# Altium schematic symbol library APSS Prototype Parts.SchLib: 64 symbols
Pins are listed as number, name and electrical type; pins without a type are passive.

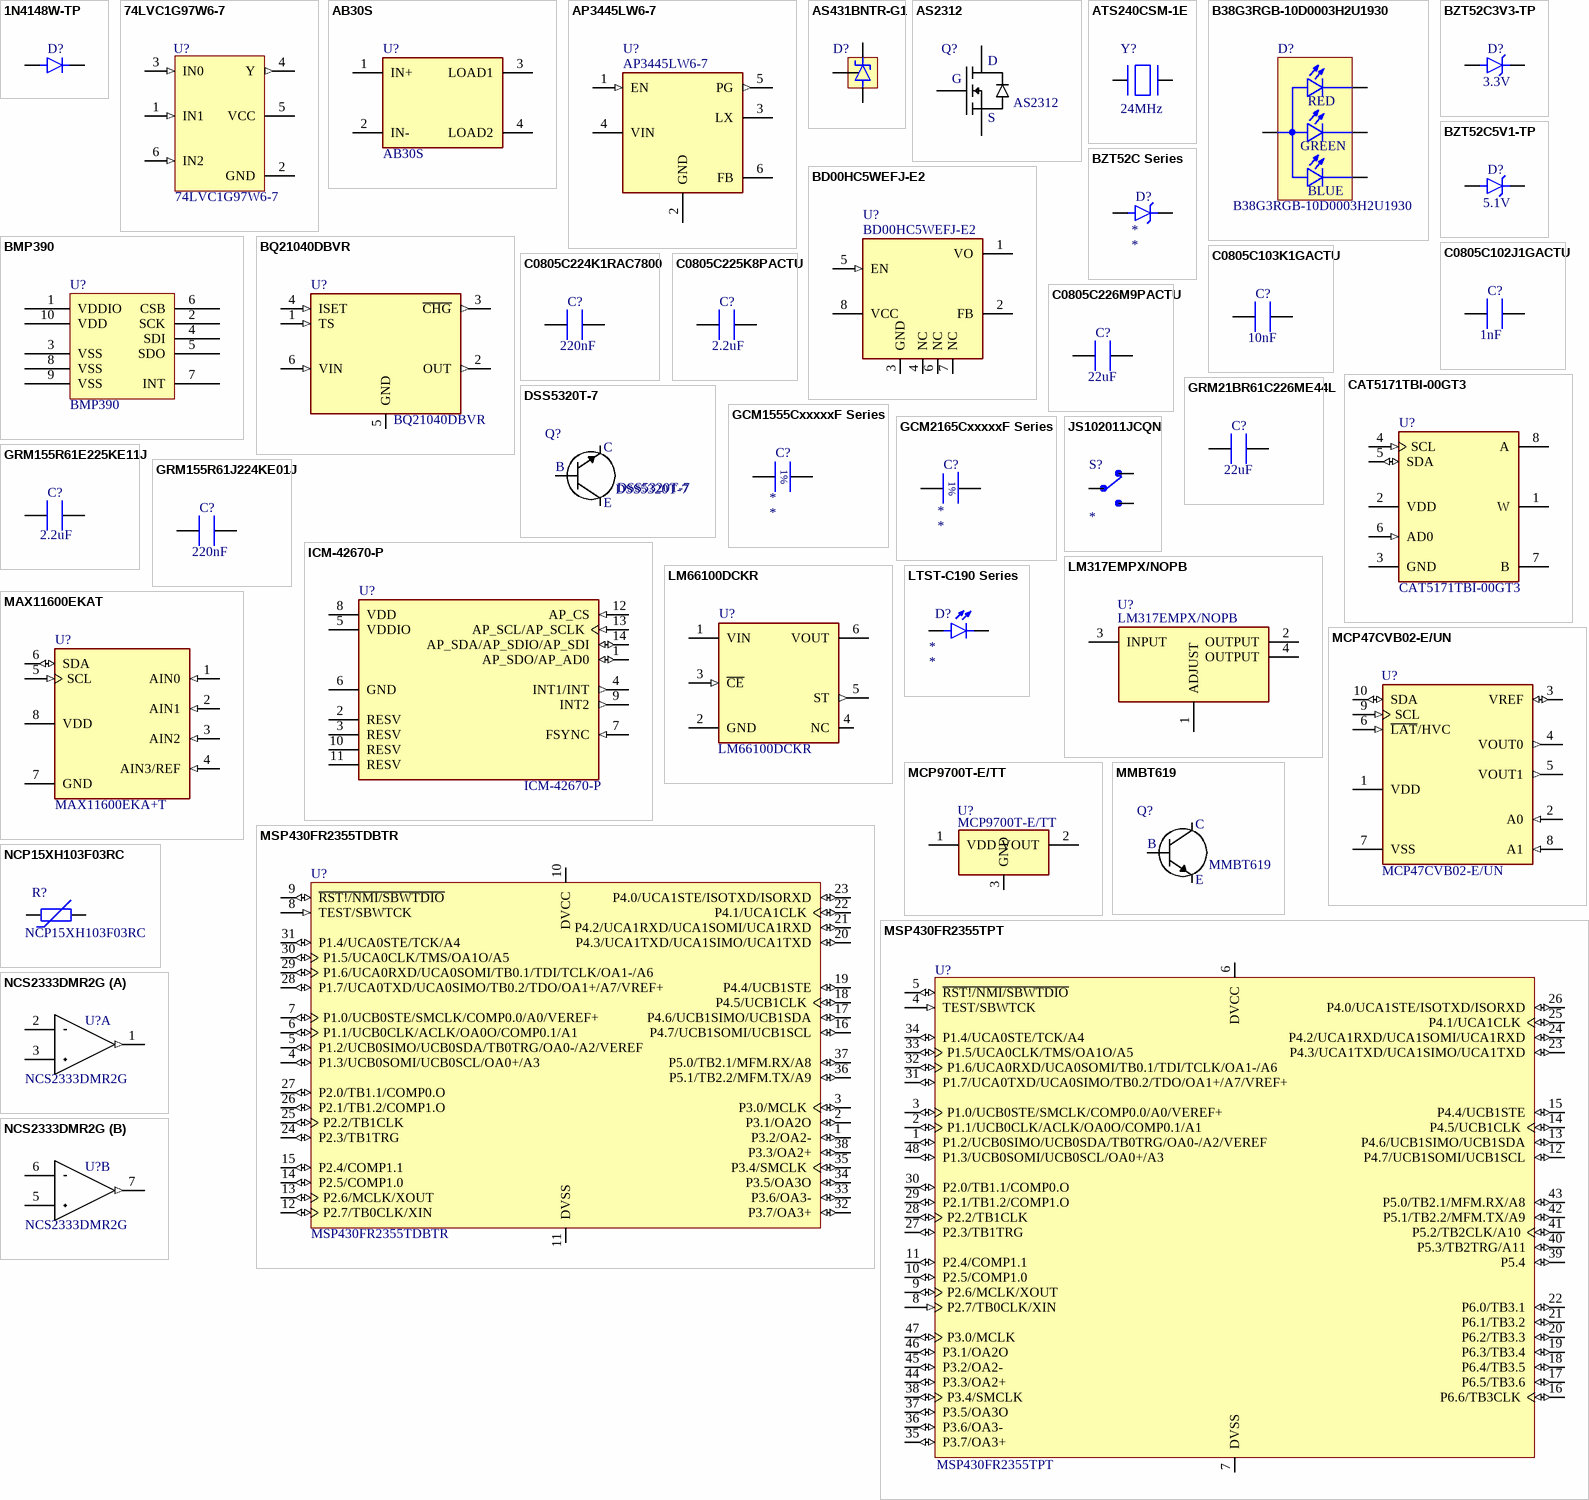
[diagram p0: symbols 1N4148W-TP to NCS2333DMR2G]

## 1N4148W-TP
designator D?  (value not drawn)
Diode - Low Reverse Leakage, 1.25 Vf @ 150 mA, 1 µA Reverse @ 75 V, SOD-123; APSS Standard Part: APSS Standard; Temp Range: -65°C ~ 150°C; Rated Voltage: 100V Reverse; MF Part No.: 1N4148W-TP; Package: SOD-123; Supplier 1: Digikey; Supplier 1 Part No.: 1N4148WTPMSCT-ND
footprint SOD123-1.35mm-N (SOD-123, 1.35mm high, nominal pads)
pins: A, C

## 74LVC1G97W6-7
designator U?
IC - Multifunction Logic Gate, 1 Circuit, 3 Input, 1.65 - 5.5V, AND, OR, NOT, MUX, SOT-23-6; APSS Standard Part: APSS Standard; Temp Range: -40°C ~ 125°C; Package: SOT-23-6; Rated Voltage: 5.5V; Supplier 1: Digikey; Supplier 1 Part No.: 74LVC1G97W6-7; MF Part No.: 74LVC1G97W6-7
footprint SOT23-6N-1.4mm (SOT23, 6 pins, nominal pads, 1.4mm high)
pins: 1 IN1 (in), 2 GND, 3 IN0 (in), 4 Y (out), 5 VCC (power), 6 IN2 (in)

## AB30S
designator U?
IC - Relay SSR, 100mA load, SPST-NO, 1500V Isolation, 400V Load; APSS Standard Part: APSS Standard; Temp Range: -40°C ~ 85°C; Package: SOP-4; Rated Voltage: 400V; Supplier 1: Digikey; Supplier 1 Part No.: 3008-AB30S-ND; MF Part No.: AB30S
footprint SOP-4_4.4mmBody_2mm (2.54mm pitch, 4.4mm wide, 2mm tall)
pins: 1 IN+, 2 IN-, 3 LOAD1, 4 LOAD2

## AP3445LW6-7
designator U?
IC - Regulator, Buck, 2A, 2.7V to 5.5V In, 0.6V to Vin Out, SOT23-6; APSS Standard Part: APSS Standard; Temp Range: -40°C ~ 85°C (TA); MF Part No.: AP3445LW6-7; Package: SOT-23-5; Supplier 1: Digikey; Supplier 1 Part No.: AP3445LW6-7DICT-ND; Rated Voltage: 5.5V
footprint SOT23-6N-1.4mm (SOT23, 6 pins, nominal pads, 1.4mm high)
pins: 1 EN (in), 2 GND (power), 3 LX, 4 VIN (power), 5 PG (out), 6 FB

## AS431BNTR-G1
designator D?  (value not drawn)
IC - Precision Voltage Reference, 2.5V - 36V, 100mA, 1%, 20ppm/°C; APSS Standard Part: APSS Standard; Temp Range: -40°C ~ 125°C; MF Part No.: AS431BNTR-G1; Package: SOT-23-3; Supplier 1: Digikey; Supplier 1 Part No.: AS431BNTR-G1DICT-ND; Rated Voltage: 36V; Temperature Coefficient: 20ppm/°C
footprint SOT23-3N-1.15mm (SOT23, 3-pin, 1.15mm high, nominal pads)
pins: 1 Ref, 2 A (power), 3 C (power)

## AS2312
designator Q?
Transistor - MOSFET, N-Channel AS2312; APSS Standard Part: APSS Standard; Temp Range: 0°C ~ 150°C (TJ); Rated Voltage: 20 Vds; Power: 1.2W; MF Part No.: AS2312; Package: SOT-23-3; Supplier 1: Digikey; Supplier 1 Part No.: 4530-AS2312CT-ND
footprint SOT23-3N-1.15mm (SOT23, 3-pin, 1.15mm high, nominal pads)
pins: 1 G, 2 S, 3 D

## ATS240CSM-1E
designator Y?, comment 24MHz
Crystal - 24MHz; MF Part No.: ATS240CSM-1E; APSS Standard Part: APSS Standard; Load Capacitance: 12pF; Freq Tolerance: ±30ppm; Freq Stability: ±50ppm; Temp range: -40°C ~ 85°C; Supplier 1: Digikey; Supplier 1 Part No.: CTX1128CT-ND; Value: 24MHz
footprint ATS240CSM-1E
pins: 1, 2

## B38G3RGB-10D0003H2U1930
designator D?
Diode - LED, RGB, 2V Red, 3V Green, 3V Blue 0606 (1616 Metric); APSS Standard Part: APSS Standard; Temp Range: -40°C ~ 85°C; MF Part No.: B38G3RGB-10D0003H2U1930; Package: 0606; Supplier 1: Digikey; Supplier 1 Part No.: 3147-B38G3RGB-10D0003H2U1930CT-ND
footprint LED_B38G3RGB-10D0003H2U1930_0606_1616M (RGB LED, 0606 (1616 metric), 0.4mm high)
pins: 1 G_C, 2 B_C, 3 A, 4 R_C
text: RED; GREEN; BLUE

## BD00HC5WEFJ-E2
designator U?
IC - Regulator, LDO, 1.5A, SOIC-8-EP; APSS Standard Part: APSS Standard; Temp Range: -25°C ~ 85°C; Rated Voltage: 8V; MF Part No.: BD00HC5WEFJ-E2; Package: SOIC-8-EP; Supplier 1: Digikey; Supplier 1 Part No.: BD00HC5WEFJ-E2CT-ND
footprint SOIC-8N-EP-3.9mmBody-1.75mm (8-SOIC, 8 pins and exposed pad, 3.9mm body width, nominal pads, 1.75mm high)
pins: 1 VO (power), 2 FB, 3 GND (power), 4 NC, 5 EN (in), 6 NC, 7 NC, 8 VCC (power)

## BMP390
designator U?
IC - Pressure Sensor, Digital; APSS Standard Part: APSS Standard; Temp Range: -40°C ~ 85°C; Pressure Range: 30 kPa ~ 125 kPa; Package: LGA; Pins: 10; Supplier 1: Digikey; Supplier 1 Part No.: 828-BMP390CT-ND; Supplier 2: *; Supplier 2 Part No.: *; MF Part No.: BMP390
footprint BMP390
pins: 1 VDDIO, 2 SCK, 3 VSS, 4 SDI, 5 SDO, 6 CSB, 7 INT, 8 VSS, 9 VSS, 10 VDD

## BQ21040DBVR
designator U?
IC - 1-cell, Li-ion / Li-po charger, 800mA; APSS Standard Part: APSS Standard; Rated Voltage: 6.45V; Temp Range: 0°C ~ 125°C (TJ); MF Part No.: BQ21040DBVR; Package: SOT-23-6; Supplier 1: Digikey; Supplier 1 Part No.: 296-47315-1-ND
footprint SOT23-6N-1.4mm (SOT23, 6 pins, nominal pads, 1.4mm high)
pins: 1 TS (in), 2 OUT (out), 3 ~{CHG} (out), 4 ISET (in), 5 GND (power), 6 VIN (in)

## BZT52C3V3-TP
designator D?  value 3.3V  (hidden comment: BZT52C3V3-TP)
Diode - Zener, 3V3, SOD-123; APSS Standard Part: APSS Standard; Temp Range: -65°C ~ 150°C; MF Part No.: BZT52C3V3-TP; Package: SOD-123; Supplier 1: Digikey; Supplier 1 Part No.: BZT52C3V3-TPMSCT-ND
footprint SOD123-1.35mm-N (SOD-123, 1.35mm high, nominal pads)
pins: A, C

## BZT52C5V1-TP
designator D?  value 5.1V  (hidden comment: BZT52C5V1-TP)
Diode - Zener, 5V1, SOD-123; APSS Standard Part: APSS Standard; Temp Range: -65°C ~ 150°C; MF Part No.: BZT52C5V1-TP; Package: SOD-123; Supplier 1: Digikey; Supplier 1 Part No.: BZT52C5V1-TPMSCT-ND
footprint SOD123-1.35mm-N (SOD-123, 1.35mm high, nominal pads)
pins: A, C

## BZT52C Series
designator D?
Diode - Zener Series, SOD-123; APSS Standard Part: APSS Standard; Temp Range: -65°C ~ 150°C; Package: SOD-123; Supplier 1: Digikey; MF Part No.: *; Value: *
footprint SOD123-1.35mm-N (SOD-123, 1.35mm high, nominal pads)
pins: A, C

## C0805C102J1GACTU
designator C?, comment 1nF
Passive - Capacitor, C0G, 1nF, 100V, 0805 (2012 Metric), ±5%, -55°C ~ 125°C.; MF Part No.: C0805C102J1GACTU; APSS Standard Part: APSS Standard; Capacitance at Rated Voltage: 100%; Tolerance: ±5%; Temperature Coefficient: C0G; Rated Voltage: 100V; Temp Range: -55°C ~ 125°C; Package: 0805; Supplier 1: Digikey; Supplier 1 Part No.: 399-C0805C102J1GAC7800CT-ND; Value: 1nF
footprint CAPACITOR_0805_2012M-70N (Capacitor, 0805 (2012 metric), 0.7mm high, nominal pads,)
pins: 1, 2

## C0805C103K1GACTU
designator C?, comment 10nF
Passive - Capacitor, C0G, 10nF, 100V, 0805 (2012 Metric), ±10%, -55°C ~ 125°C.; MF Part No.: C0805C103K1GACTU; APSS Standard Part: APSS Standard; Capacitance at Rated Voltage: 100%; Tolerance: ±10%; Temperature Coefficient: C0G; Rated Voltage: 100V; Temp Range: -55°C ~ 125°C; Package: 0805; Supplier 1: Digikey; Supplier 1 Part No.: 399-C0805C103K1GAC7800CT-ND; Value: 10nF
footprint CAPACITOR_0805_2012M-70N (Capacitor, 0805 (2012 metric), 0.7mm high, nominal pads,)
pins: 1, 2

## C0805C224K1RAC7800
designator C?, comment 220nF
Passive - Capacitor, X7R, 220nF Max, 100V, 0805 (2012 Metric), ±10%, -55°C ~ 85°C. 200nF @ 10V, 110nF @ 50V, 55nF @ 100V; MF Part No.: C0805C224K1RAC7800; APSS Standard Part: APSS Standard; Capacitance at Rated Voltage: 25%; Tolerance: ±10%; Temperature Coefficient: X7R; Rated Voltage: 100V; Temp Range: -55°C ~ 85°C; Package: 0805; Supplier 1: Digikey; Supplier 1 Part No.: 399-C0805C224K1RAC7800CT-ND; Value: 220nF
footprint CAPACITOR_0805_2012M-70N (Capacitor, 0805 (2012 metric), 0.7mm high, nominal pads,)
pins: 1, 2

## C0805C225K8PACTU
designator C?, comment 2.2uF
Passive - Capacitor, X5R, 2.2uF Max, 10V, 0805 (2012 Metric), ±10%, -55°C ~ 85°C. 2uF @ 5V, 1.1uF @ 10V; MF Part No.: C0805C225K8PACTU; APSS Standard Part: APSS Standard; Capacitance at Rated Voltage: 50%; Tolerance: ±10%; Temperature Coefficient: X5R; Rated Voltage: 10V; Temp Range: -55°C ~ 85°C; Package: 0805; Supplier 1: Digikey; Supplier 1 Part No.: 399-C0805C225K8PACTUCT-ND; Value: 2.2uF
footprint CAPACITOR_0805_2012M-70N (Capacitor, 0805 (2012 metric), 0.7mm high, nominal pads,)
pins: 1, 2

## C0805C226M9PACTU
designator C?, comment 22uF
Passive - Capacitor, X5R, 22uF Max, 6.3V, 0805 (2012 Metric), ±20%, -55°C ~ 85°C. 8.8uF @ 5V; MF Part No.: C0805C226M9PACTU; APSS Standard Part: APSS Standard; Capacitance at Rated Voltage: 30%; Tolerance: ±20%; Temperature Coefficient: X5R; Rated Voltage: 6.3V; Temp Range: -55°C ~ 85°C; Package: 0805; Supplier 1: Digikey; Supplier 1 Part No.: 399-C0805C226M9PAC7800CT-ND; Value: 22uF
footprint CAPACITOR_0805_2012M-70N (Capacitor, 0805 (2012 metric), 0.7mm high, nominal pads,)
pins: 1, 2

## CAT5171TBI-00GT3
designator U?
IC - Digipot, 100k Ohm, 256 Taps, 1 Circuit, I2C Interface, SOT-28; APSS Standard Part: APSS Standard; Temp Range: -40°C ~ 85°C; Rated Voltage: 5.5V; MF Part No.: CAT5171TBI-00GT3; Package: SOT-28-8; Supplier 1: Digikey; Supplier 1 Part No.: CAT5171TBI-00GT3OSCT-ND
footprint SOT28-8N-1.45mm (SOT28, 8 pin, 1.45mm high, nominal pads)
pins: 1 W, 2 VDD (power), 3 GND (power), 4 SCL (in), 5 SDA (io), 6 AD0 (in), 7 B, 8 A

## DSS5320T-7
designator Q?
Transistor - BJT PNP DSS5320T-7; APSS Standard Part: APSS Standard; Temp Range: -55°C ~ 150°C (TJ); Rated Voltage: 20 Vce; Power: 600mW; MF Part No.: DSS5320T-7; Package: SOT-23-3; Supplier 1: Digikey; Supplier 1 Part No.: DSS5320T-7DICT-ND
footprint SOT23-3N-1.15mm (SOT23, 3-pin, 1.15mm high, nominal pads)
pins: 1 B, 2 E, 3 C

## GCM1555CxxxxxF Series
designator C?
Passive - Capacitor Series, C0G, 5pF ~ 1nF, 50V, 0402 (1005 Metric), ±1%, -55°C ~ 125°C; APSS Standard Part: APSS Standard; Capacitance at Rated Voltage: 100%; E Series: E24; Tolerance: ±1%; Temperature Coefficient: C0G; Rated Voltage: 50V; Value Range: 5pF ~ 1nF; Temp Range: -55°C ~ 125°C; Supplier 1: Digikey; Package: 0402; MF Part No.: *; Value: *
footprint CAPACITOR_0402_1005M_55N (Capacitor, 0402 (1005 metric), 0.55mm height, nominal pads)
pins: 1, 2
text: 1%

## GCM2165CxxxxxF Series
designator C?
Passive - Capacitor Series, C0G, 5pF ~ 22nF, 50V, 0805 (2012 Metric), ±1%, -55°C ~ 125°C; APSS Standard Part: APSS Standard; Capacitance at Rated Voltage: 100%; E Series: E24; Tolerance: ±1%; Temperature Coefficient: C0G; Rated Voltage: 50V; Value Range: 5pF ~ 22nF; Temp Range: -55°C ~ 125°C; Supplier 1: Digikey; Package: 0805; MF Part No.: *; Value: *
footprint CAPACITOR_0805_2012M-70N (Capacitor, 0805 (2012 metric), 0.7mm high, nominal pads,)
pins: 1, 2
text: 1%

## GRM21BR61C226ME44L
designator C?, comment 22uF
Passive - Capacitor, X5R, 22uF Max, 16V, 0805 (2012 Metric), ±20%, -55°C ~ 85°C. 9.4uF @ 5V, 3.2uF @ 15V, 1.9uF @ 25V; MF Part No.: GRM21BR61C226ME44L; APSS Standard Part: APSS Standard; Capacitance at Rated Voltage: 10%; Tolerance: ±20%; Temperature Coefficient: X5R; Rated Voltage: 16V; Temp Range: -55°C ~ 85°C; Package: 0805; Supplier 1: Digikey; Supplier 1 Part No.: 490-10747-1-ND; Value: 22uF
footprint CAPACITOR_0805_2012M-70N (Capacitor, 0805 (2012 metric), 0.7mm high, nominal pads,)
pins: 1, 2

## GRM155R61E225KE11J
designator C?, comment 2.2uF
Passive - Capacitor, X5R, 2.2uF Max, 25V, 0402 (1005 Metric), ±10%, -55°C ~ 85°C. 1.02uF @ 5V, 0.35uF @ 15V, 0.215uF @ 25V; MF Part No.: GRM155R61E225KE11J; APSS Standard Part: APSS Standard; Tolerance: ±10%; Temperature Coefficient: X5R; Capacitance at Rated Voltage: 10%; Rated Voltage: 25V; Temp Range: -55°C ~ 85°C; Package: 0402; Supplier 1: Digikey; Supplier 1 Part No.: 490-10749-1-ND; Value: 2.2uF
footprint CAPACITOR_0402_1005M_55N (Capacitor, 0402 (1005 metric), 0.55mm height, nominal pads)
pins: 1, 2

## GRM155R61J224KE01J
designator C?, comment 220nF
Passive - Capacitor, X5R, 220nF Max, 63V, 0402 (1005 Metric), ±10%, -55°C ~ 85°C. 106nF @ 5V, 34nF @ 20V, 24nF @ 40V,28nF @ 63V; MF Part No.: GRM155R61J224KE01J; APSS Standard Part: APSS Standard; Tolerance: ±10%; Temperature Coefficient: X5R; Capacitance at Rated Voltage: 10%; Rated Voltage: 63V; Temp Range: -55°C ~ 85°C; Package: 0402; Supplier 1: Digikey; Supplier 1 Part No.: 490-GRM21BZ71A226ME15LCT-ND; Value: 220nF
footprint CAPACITOR_0402_1005M_55N (Capacitor, 0402 (1005 metric), 0.55mm height, nominal pads)
pins: 1, 2

## ICM-42670-P
designator U?
IC - Inertial Management Unit: Accelerometer + Gyro + Temperature Sensor, 6 Axis, I2C / I3C / SPI Interfaces; APSS Standard Part: APSS Standard; Rated Voltage: 3.6V; Temp Range: -40°C ~ 85°C; Package: 14-LGA; MF Part No.: ICM-42670-P; Supplier 1: Digikey; Supplier 1 Part No.: 1428-ICM-42670-PCT-ND
footprint XDCR_ICM-42670-P-EXTENDED_PADS
footprint XDCR_ICM-42670-P
pins: 1 AP_SDO/AP_AD0 (io), 2 RESV, 3 RESV, 4 INT1/INT (out), 5 VDDIO (power), 6 GND (power), 7 FSYNC (in), 8 VDD (power), 9 INT2 (out), 10 RESV, 11 RESV, 12 AP_CS (in), 13 AP_SCL/AP_SCLK (in), 14 AP_SDA/AP_SDIO/AP_SDI (io)

## JS102011JCQN
designator S?
Switch - Slide, SPDT, Straight, Break Before Make, 300mA, 6V; MF Part No.: JS102011JCQN; APSS Standard Part: APSS Standard; Temp Range: -40°C ~ 85°C; Mounting Type: Through-hole; Orientation: Straight; Rated Voltage: 6V; Supplier 1: Digikey; Supplier 1 Part No.: CKN10721CT-ND
footprint SW_JS102011JCQN
pins: 1, 2, 3

## LM317EMPX/NOPB
designator U?
IC - Regulator, Linear, 1.5-A, High Power, Wide Input, SOT-223-4; APSS Standard Part: APSS Standard; Temp Range: 0°C ~ 125°C; Rated Voltage: 37V; MF Part No.: LM317EMPX/NOPB; Package: SOT-223-4; Supplier 1: Digikey; Supplier 1 Part No.: LM317EMPX/NOPBCT-ND
footprint SOT223-4N-P700-1.8mm (SOT223, 4-pin, power pad, 1.8mm high,)
pins: 1 ADJUST, 2 OUTPUT (power), 3 INPUT (power), 4 OUTPUT

## LM66100DCKR
designator U?
Diode - Ideal Diode IC, ±6V, Reverse Polarity Protection, SOT323-6, -40 to 105; APSS Standard Part: APSS Standard; Temp Range: -40°C ~ 105°C; MF Part No.: LM66100DCKR; Package: SOT-323-6; Supplier 1: Digikey; Supplier 1 Part No.: 296-53541-1-ND; Rated Voltage: ±6V
footprint LQFP_PT_48_N
pins: 1 VIN (power), 2 GND (power), 3 ~{CE} (in), 4 NC, 5 ST (out), 6 VOUT (power)

## LTST-C190 Series
designator D?
Diode - LED, 0603; APSS Standard Part: APSS Standard; Temp Range: -30°C ~ 85°C; Rated Voltage: 5V Reverse; Package: 0603; Supplier 1: Digikey; MF Part No.: *; Colour: *
footprint LED_0603_1608M_0.80mm (LED, 0603 (1608 metric), 0.8mm high)
pins: A, C

## MAX11600EKAT
designator U?, comment MAX11600EKA+T
IC - ADC, 8-bit, 2 or 4 Inputs, 1 SAR, SOT-23-8; APSS Standard Part: APSS Standard; Temp Range: -40°C ~ 85°C; Rated Voltage: 5V; MF Part No.: MAX11600EKA+T; Footprint: SOT-28; Package: SOT-28-8; Supplier 1: Digikey; Supplier 1 Part No.: MAX11600EKA+TCT-ND
footprint SOT28-8N-1.45mm (SOT28, 8 pin, 1.45mm high, nominal pads)
pins: 1 AIN0 (in), 2 AIN1 (in), 3 AIN2 (in), 4 AIN3/REF (in), 5 SCL (in), 6 SDA (io), 7 GND (power), 8 VDD (power)

## MCP47CVB02-E/UN
designator U?
IC - DAC, 8-bit, 2 Output, 10-MSOP; APSS Standard Part: APSS Standard; Temp Range: -40°C ~ 125°C; Rated Voltage: 5.5V; MF Part No.: MCP47CVB02-E/UN; Footprint: 10-MSOP; Package: MSOP-10 0.5mm; Supplier 1: Digikey; Supplier 1 Part No.: MCP47CVB02-E/UN-ND
footprint MSOP-10N-0.5mmPitch-3mmBody-1.1mm (MSOP, 10 pin, 0.5mm pitch, 3mm wide, nominal pads, 1.1mm high)
pins: 1 VDD (power), 2 A0 (in), 3 VREF (io), 4 VOUT0 (out), 5 VOUT1 (out), 6 ~{LAT}/HVC (in), 7 VSS (power), 8 A1 (in), 9 SCL (in), 10 SDA (io)

## MCP9700T-E/TT
designator U?
IC - Temperature Sensor, Analog, Local -40°C ~ 125°C 10mV/°C SOT-23-3; APSS Standard Part: APSS Standard; Rated Voltage: 5.5V; Package: SOT-23-3; MF Part No.: MCP9700T-E/TT; Temp Range: -40°C ~ 125°C; Supplier 1: Digikey; Supplier 1 Part No.: MCP9700T-E/TTCT-ND
footprint SOT23-3N-1.15mm (SOT23, 3-pin, 1.15mm high, nominal pads)
pins: 1 VDD (power), 2 VOUT (power), 3 GND (power)

## MMBT619
designator Q?
Transistor - BJT NPN MMBT619; APSS Standard Part: APSS Standard; Temp Range: -55°C ~ 150°C (TJ); Rated Voltage: 50 Vce; Power: 350mW; MF Part No.: MMBT619; Package: SOT-23-3; Supplier 1: Digikey; Supplier 1 Part No.: 4786-MMBT619CT-ND
footprint SOT23-3N-1.15mm (SOT23, 3-pin, 1.15mm high, nominal pads)
pins: 1 B, 2 E, 3 C

## MSP430FR2355TDBTR
designator U?
IC - Microcontroller, TSSOP-38, 24MHz, 32KB FRAM, Op-Amps/PGAs, 12-bit DACs, 12-bit ADC, -40 to 105C; MF Part No.: MSP430FR2355TPT; APSS Standard Part: APSS Standard; Temp Range: -40°C ~ 105°C; Rated Voltage: 3.6V; Package: LQFP-48; Supplier 1: Digikey; Supplier 1 Part No.: 296-50260-ND
footprint TSSOP65P640X120-0.5mm-38N (TSSOP/MSOP/VSSOP, 0.5mm pitch, 4.4mm wide, 38 pin nominal, 1.2mm high)
pins: 1 P3.2/OA2- (io), 2 P3.1/OA2O (io), 3 P3.0/MCLK (io), 4 P1.3/UCB0SOMI/UCB0SCL/OA0+/A3 (io), 5 P1.2/UCB0SIMO/UCB0SDA/TB0TRG/OA0-/A2/VEREF (io), 6 P1.1/UCB0CLK/ACLK/OA0O/COMP0.1/A1 (io), 7 P1.0/UCB0STE/SMCLK/COMP0.0/A0/VEREF+ (io), 8 TEST/SBWTCK (in), 9 ~{RST!/NMI/SBWTDIO} (io), 10 DVCC (power), 11 DVSS (power), 12 P2.7/TB0CLK/XIN (io), 13 P2.6/MCLK/XOUT (io), 14 P2.5/COMP1.0 (io), 15 P2.4/COMP1.1 (io), 16 P4.7/UCB1SOMI/UCB1SCL (io), 17 P4.6/UCB1SIMO/UCB1SDA (io), 18 P4.5/UCB1CLK (io), 19 P4.4/UCB1STE (io), 20 P4.3/UCA1TXD/UCA1SIMO/UCA1TXD (io), 21 P4.2/UCA1RXD/UCA1SOMI/UCA1RXD (io), 22 P4.1/UCA1CLK (io), 23 P4.0/UCA1STE/ISOTXD/ISORXD (io), 24 P2.3/TB1TRG (io), 25 P2.2/TB1CLK (io), 26 P2.1/TB1.2/COMP1.O (io), 27 P2.0/TB1.1/COMP0.O (io), 28 P1.7/UCA0TXD/UCA0SIMO/TB0.2/TDO/OA1+/A7/VREF+ (io), 29 P1.6/UCA0RXD/UCA0SOMI/TB0.1/TDI/TCLK/OA1-/A6 (io), 30 P1.5/UCA0CLK/TMS/OA1O/A5 (io), 31 P1.4/UCA0STE/TCK/A4 (io), 32 P3.7/OA3+ (io), 33 P3.6/OA3- (io), 34 P3.5/OA3O (io), 35 P3.4/SMCLK (io), 36 P5.1/TB2.2/MFM.TX/A9 (io), 37 P5.0/TB2.1/MFM.RX/A8 (io), 38 P3.3/OA2+ (io)

## MSP430FR2355TPT
designator U?
IC - Microcontroller, LQFP-48, 24MHz, 32KB FRAM, Op-Amps/PGAs, 12-bit DACs, 12-bit ADC, -40 to 105C; APSS Standard Part: APSS Standard; Temp Range: -40°C ~ 105°C; Rated Voltage: 3.6V; MF Part No.: MSP430FR2355TPT; Package: LQFP-48; Supplier 1: Digikey; Supplier 1 Part No.: 296-50260-ND
footprint LQFP_PT_48_N
pins: 1 P1.2/UCB0SIMO/UCB0SDA/TB0TRG/OA0-/A2/VEREF (io), 2 P1.1/UCB0CLK/ACLK/OA0O/COMP0.1/A1 (io), 3 P1.0/UCB0STE/SMCLK/COMP0.0/A0/VEREF+ (io), 4 TEST/SBWTCK (in), 5 ~{RST!/NMI/SBWTDIO} (io), 6 DVCC (power), 7 DVSS (power), 8 P2.7/TB0CLK/XIN (in), 9 P2.6/MCLK/XOUT (io), 10 P2.5/COMP1.0 (io), 11 P2.4/COMP1.1 (io), 12 P4.7/UCB1SOMI/UCB1SCL (io), 13 P4.6/UCB1SIMO/UCB1SDA (io), 14 P4.5/UCB1CLK (io), 15 P4.4/UCB1STE (io), 16 P6.6/TB3CLK (io), 17 P6.5/TB3.6 (io), 18 P6.4/TB3.5 (io), 19 P6.3/TB3.4 (io), 20 P6.2/TB3.3 (io), 21 P6.1/TB3.2 (io), 22 P6.0/TB3.1 (io), 23 P4.3/UCA1TXD/UCA1SIMO/UCA1TXD (io), 24 P4.2/UCA1RXD/UCA1SOMI/UCA1RXD (io), 25 P4.1/UCA1CLK (io), 26 P4.0/UCA1STE/ISOTXD/ISORXD (io), 27 P2.3/TB1TRG (io), 28 P2.2/TB1CLK (io), 29 P2.1/TB1.2/COMP1.O (io), 30 P2.0/TB1.1/COMP0.O (io), 31 P1.7/UCA0TXD/UCA0SIMO/TB0.2/TDO/OA1+/A7/VREF+ (io), 32 P1.6/UCA0RXD/UCA0SOMI/TB0.1/TDI/TCLK/OA1-/A6 (io), 33 P1.5/UCA0CLK/TMS/OA1O/A5 (io), 34 P1.4/UCA0STE/TCK/A4 (io), 35 P3.7/OA3+ (io), 36 P3.6/OA3- (io), 37 P3.5/OA3O (io), 38 P3.4/SMCLK (io), 39 P5.4 (io), 40 P5.3/TB2TRG/A11 (io), 41 P5.2/TB2CLK/A10 (io), 42 P5.1/TB2.2/MFM.TX/A9 (io), 43 P5.0/TB2.1/MFM.RX/A8 (io), 44 P3.3/OA2+ (io), 45 P3.2/OA2- (io), 46 P3.1/OA2O (io), 47 P3.0/MCLK (io), 48 P1.3/UCB0SOMI/UCB0SCL/OA0+/A3 (io)

## NCP15XH103F03RC
designator R?
Passive - Thermistor, NTC, 10K; APSS Standard Part: APSS Standard; Temp Range: -40°C ~ 125°C; Power: 1/10W; Value: 10k (nominal); Rated Voltage: 5V; Package: 0402; Supplier 1: Digikey; Supplier 1 Part No.: 490-4801-1-ND; MF Part No.: NCP15XH103F03RC
footprint RESISTOR_0402_1005M_50N (Resistor, 0402 (1005 metric), 0.5mm height, nominal pads)
pins: 1, 2

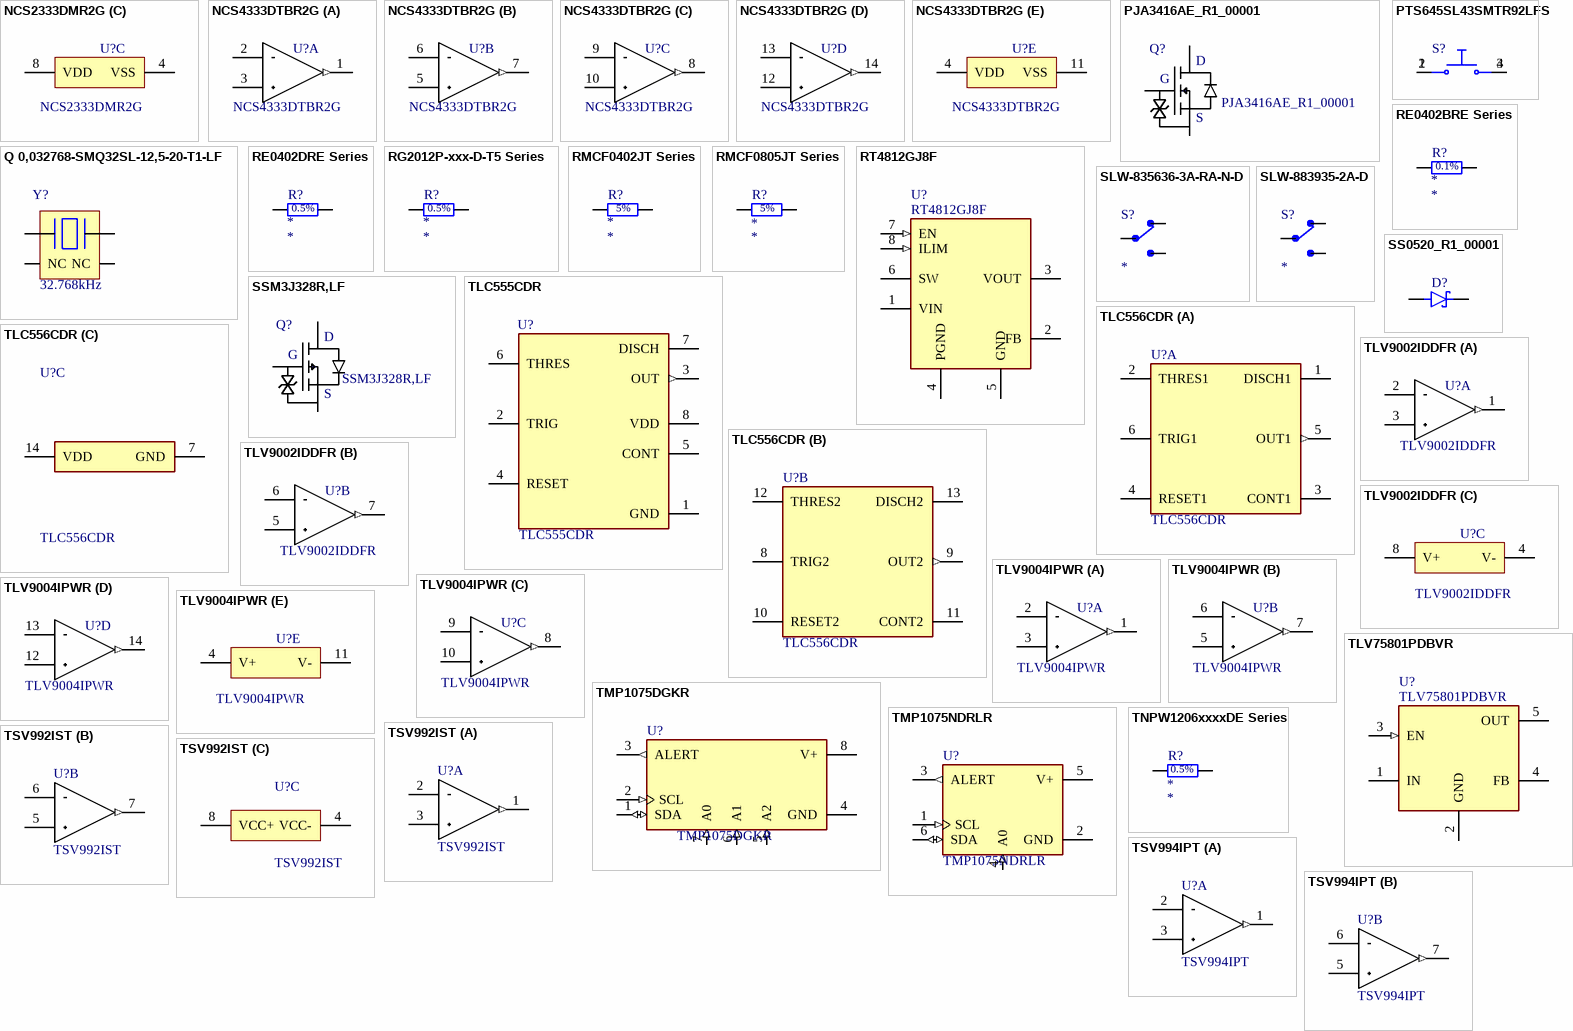
[diagram p1: symbols NCS2333DMR2G to TSV994IPT]

## NCS2333DMR2G
designator U?
IC - Opamp, Precision, 2-Channel, Zero Drift, 270kHz GBWP, RRIO, 1.8V to 5.5V, -40 to 125, 8-MSOP; APSS Standard Part: APSS Standard; Temp Range: -40°C ~ 125°C; MF Part No.: NCS2333DMR2G; Package: MSOP-8 0.65mm; Supplier 1: Digikey; Supplier 1 Part No.: 488-NCS2333DMR2GCT-ND; Rated Voltage: 5.5V
footprint MSOP-8N-3mmBody-1.1mm (MSOP, 8 pin, 3mm wide, nominal pads, 1.1mm high)
part A pins: 1 OUT1 (out), 2 IN1-, 3 IN1+
part B pins: 5 IN2+, 6 IN2-, 7 OUT1 (out)
part C pins: 4 VSS, 8 VDD

## NCS4333DTBR2G
designator U?
IC - Opamp, Precision, 4-Channel, Zero Drift, 350kHz GBWP, RRIO, 1.8V to 5.5V, -40 to 125, 14-TSSOP; APSS Standard Part: APSS Standard; Temp Range: -40°C ~ 125°C; MF Part No.: NCS4333DTBR2G; Package: TSSOP-14; Supplier 1: Digikey; Supplier 1 Part No.: 488-NCS4333DTBR2GCT-ND; Rated Voltage: 5.5V
footprint TSSOP65P640X120-14N (TSSOP/MSOP/VSSOP, 4.4mm wide, 14 pin nominal)
part A pins: 1 OUT1 (out), 2 IN1-, 3 IN1+
part B pins: 5 IN2+, 6 IN2-, 7 OUT2 (out)
part C pins: 8 OUT3 (out), 9 IN3-, 10 IN3+
part D pins: 12 IN4+, 13 IN4-, 14 OUT4 (out)
part E pins: 4 VDD (power), 11 VSS (power)

## PJA3416AE_R1_00001
designator Q?
Transistor - MOSFET, N-Channel PJA3416AE_R1_00001; APSS Standard Part: APSS Standard; Temp Range: -55°C ~ 150°C (TJ); Rated Voltage: 20 Vds; Power: 1.25W; MF Part No.: PJA3416AE_R1_00001; Package: SOT23-3; Supplier 1: Digikey; Supplier 1 Part No.: 3757-PJA3416AE_R1_00001CT-ND
footprint SOT23-3N-1.15mm (SOT23, 3-pin, 1.15mm high, nominal pads)
pins: 1 G, 2 S, 3 D

## PTS645SL43SMTR92LFS
designator S?  (value not drawn)
Switch - Tact, SPST, Momentary, Normally Open, 50mA @ 12VDC; APSS Standard Part: APSS Standard; MF Part No.: SW_PTS645SL43SMTR92LFS; Rated Voltage: 250V AC; Temp Range: -40°C ~ 85°C; Mounting Type: Surface Mount; Supplier 1: Digikey; Supplier 1 Part No.: CKN10880CT-ND
footprint SW_PTS645SL43SMTR92LFS
pins: 1, 2 , 2, 3, 4

## Q 0,032768-SMQ32SL-12,5-20-T1-LF
designator Y?, comment 32.768kHz
Crystal - 32.7680kHz 4-SOJ; MF Part No.: Q 0,032768-SMQ32SL-12,5-20-T1-LF; APSS Standard Part: APSS Standard; Load Capacitance: 12.5pF; Freq Tolerance: ±20ppm; Freq Stability: -160ppm; Temp range: -40°C ~ 85°C; Supplier 1: Digikey; Supplier 1 Part No.: 1908-Q0032768-SMQ32SL-125-20-T1-LFCT-ND; Value: 32.768kHz
footprint Q 0,032768-SMQ32SL-12,5-20-T1-LF
pins: 1, 2 NC, 3 NC, 4

## RE0402BRE Series
designator R?
Passive - Resistor Series, 0402, 0.1%, 10R - 1M, E24+E96, 0.063W, 1/16W, ±50ppm/°C, -55°C ~ 155°C, 0402 (1005 Metric); APSS Standard Part: APSS Standard; Value Range: 10 ~ 1M; Rated Voltage: 50V; Tolerance: 0.1%; Power: 1/16W; E Series: E24 + E96; Temp Range: -55°C ~ 155°C; Supplier 1: Digikey; Package: 0402; Temperature Coefficient: ±50ppm/°C; MF Part No.: *; Value: *
footprint RESISTOR_0402_1005M_37N (Resistor, 0402 (1005 metric), 0.37mm height, nominal pads)
pins: 1, 2

## RE0402DRE Series
designator R?
Passive - Resistor Series, 0402, 0.5%, 10R - 1M, E24+E96, 0.063W, 1/16W, ±50ppm/°C, -55°C ~ 155°C, 0402 (1005 Metric); APSS Standard Part: APSS Standard; Tolerance: 0.1%; Value Range: 10 ~ 1M; Rated Voltage: 50V; Power: 1/16W; E Series: E24 + E96; Temp Range: -55°C ~ 155°C; Supplier 1: Digikey; Package: 0402; Temperature Coefficient: ±50ppm/°C; MF Part No.: *; Value: *
footprint RESISTOR_0402_1005M_37N (Resistor, 0402 (1005 metric), 0.37mm height, nominal pads)
pins: 1, 2
text: 0.5%

## RG2012P-xxx-D-T5 Series
designator R?
Passive - Resistor Series, 0805, 0.5%, 10 - 1M, E24, 0.063W, 1/8W, ±25ppm/°C, -55°C ~ 155°C, 0805 (2012 Metric); APSS Standard Part: APSS Standard; Value Range: 10 ~ 1M; Rated Voltage: 150V; Tolerance: 0.5%; Power: 1/8W; E Series: E24; Temp Range: -55°C ~ 155°C; Supplier 1: Digikey; Package: 0805; Temperature Coefficient: ±25ppm/°C; MF Part No.: *; Value: *
footprint Resistor_0805_2012M-50N (Resistor, 0805 (2012 metric), nominal pads)
pins: 1, 2

## RMCF0402JT Series
designator R?
Passive - Resistor Series, 0402, 5%, 1R - 20M, E24, 0.063W, 1/16W, ±100ppm/°C, -55°C ~ 155°C, 0402 (1005 Metric); APSS Standard Part: APSS Standard; Value Range: 1 ~ 20M; Rated Voltage: 50V; Tolerance: 5%; Power: 1/16W; E Series: E24; Temp Range: -55°C ~ 155°C; Supplier 1: Digikey; Package: 0402; Temperature Coefficient: ±100ppm/°C; MF Part No.: *; Value: *
footprint RESISTOR_0402_1005M_37N (Resistor, 0402 (1005 metric), 0.37mm height, nominal pads)
pins: 1, 2

## RMCF0805JT Series
designator R?
Passive - Resistor Series, 0805, 5%, 100m - 22M, E24, 0.063W, 1/16W, ±200ppm/°C, -55°C ~ 155°C, 0805 (2012 Metric); APSS Standard Part: APSS Standard; Power: 1/8W; Value Range: 100m ~ 22M; Rated Voltage: 150V; Tolerance: 5%; E Series: E24; Temp Range: -55°C ~ 155°C; Supplier 1: Digikey; Package: 0805; Temperature Coefficient: ±200ppm/°C; MF Part No.: *; Value: *
footprint Resistor_0805_2012M-50N (Resistor, 0805 (2012 metric), nominal pads)
pins: 1, 2

## RT4812GJ8F
designator U?
IC - Regulator, Boost, 2A, 1.8V to 5.5V In/Out, TSOT-28; APSS Standard Part: APSS Standard; Temp Range: -40°C ~ 85°C (TA); MF Part No.: RT4812GJ8F; Package: SOT-28-8; Supplier 1: Digikey; Supplier 1 Part No.: 1028-1512-1-ND; Rated Voltage: 5.5V
footprint SOT28-8N-1.45mm (SOT28, 8 pin, 1.45mm high, nominal pads)
pins: 1 VIN (power), 2 FB, 3 VOUT (power), 4 PGND (power), 5 GND (power), 6 SW, 7 EN (in), 8 ILIM (in)

## SLW-835636-3A-RA-N-D
designator S?
Switch - Slide, SPDT, Right Angle, Break Before Make, 300mA, 50V; MF Part No.: SLW-835636-3A-RA-N-D; APSS Standard Part: APSS Standard; Temp Range: -20°C ~ 70°C; Mounting Type: Through-hole; Orientation: Right Angle; Rated Voltage: 50V; Supplier 1: Digikey; Supplier 1 Part No.: 2223-SLW-835636-3A-RA-N-D-ND
footprint SLW-835636-3A-RA-N-D
pins: 1, 2, 3

## SLW-883935-2A-D
designator S?
Switch - Slide, SPDT, Straight, Break Before Make, 500mA, 30V; MF Part No.: SLW-883935-2A-D; APSS Standard Part: APSS Standard; Temp Range: -20°C ~ 70°C; Mounting Type: Through-hole; Orientation: Straight; Rated Voltage: 30V; Supplier 1: Digikey; Supplier 1 Part No.: 2223-SLW-883935-2A-D-ND
footprint SLW-883935-2A-D
pins: 1, 2, 3

## SS0520_R1_00001
designator D?  (value not drawn)
Diode - Low Forward Voltage, Schottky, 385 mV @ 500 mA, 75 µA Reverse @ 10 V, SOD-123; APSS Standard Part: APSS Standard; Temp Range: -55°C ~ 125°C; Rated Voltage: 20V Reverse; MF Part No.: SS0520_R1_00001; Package: SOD-123; Supplier 1: Digikey; Supplier 1 Part No.: 3757-SS0520_R1_00001CT-ND
footprint SOD123-1.35mm-N (SOD-123, 1.35mm high, nominal pads)
pins: A, C

## SSM3J328R,LF
designator Q?
Transistor - MOSFET, P-Channel SSM3J328R,LF; APSS Standard Part: APSS Standard; Temp Range: 0°C ~ 150°C (TJ); Rated Voltage: 20 Vds; Power: 1W; MF Part No.: SSM3J328R,LF; Package: SOT23-3; Supplier 1: Digikey; Supplier 1 Part No.: SSM3J328RLFCT-ND
footprint SOT23F-3-0.8mm (SOT23, 3-pin, flat leads, 0.8mm high)
pins: 1 G, 2 S, 3 D

## TLC555CDR
designator U?
IC - Timer, 1-Channel, 2.1-MHz, 720uA, 8-SOIC, 0 to 70; APSS Standard Part: APSS Standard; Temp Range: 0°C ~ 70°C; Rated Voltage: 15V; MF Part No.: TLC555CDR; Package: SOIC-8; Supplier 1: Digikey; Supplier 1 Part No.: 296-1336-1-ND
footprint SOIC-8N-3.9mmBody-1.75mm (8-SOIC, 8 pins, 3.9mm body width, nominal pads, 1.75mm high)
pins: 1 GND (power), 2 TRIG, 3 OUT (out), 4 RESET, 5 CONT, 6 THRES, 7 DISCH, 8 VDD (power)

## TLC556CDR
designator U?
IC - Timer, 2-Channel, 2.1-MHz, 2x720uA, 14-SOIC, 0 to 70; APSS Standard Part: APSS Standard; Temp Range: 0°C ~ 70°C; Rated Voltage: 15V; MF Part No.: TLC556CDR; Package: SOIC-14; Supplier 1: Digikey; Supplier 1 Part No.: 296-1338-1-ND
footprint SOIC-14N-3.9mmBody-1.75mm (14-SOIC, 3.9mm body width, nominal pads, 1.75mm high)
part A pins: 1 DISCH1, 2 THRES1, 3 CONT1, 4 RESET1, 5 OUT1 (out), 6 TRIG1
part B pins: 8 TRIG2, 9 OUT2 (out), 10 RESET2, 11 CONT2, 12 THRES2, 13 DISCH2
part C pins: 7 GND (power), 14 VDD (power)

## TLV9002IDDFR
designator U?
IC - Opamp, Low Power, 2-Channel, 1MHz GBWP, RRIO, 1.8V to 5.5V, -40 to 125, SOT-28; APSS Standard Part: APSS Standard; Temp Range: -40°C ~ 125°C; MF Part No.: TLV9002IDDFR; Package: SOT-28-8; Supplier 1: Digikey; Supplier 1 Part No.: 296-TLV9002IDDFRCT-ND; Rated Voltage: 5.5V
footprint SOT28-8N-1.45mm (SOT28, 8 pin, 1.45mm high, nominal pads)
part A pins: 1 OUT1 (out), 2 IN1-, 3 IN1+
part B pins: 5 IN2+, 6 IN2-, 7 OUT1 (out)
part C pins: 4 V- (power), 8 V+ (power)

## TLV9004IPWR
designator U?
IC - Opamp, Low Power, 4-Channel, 1MHz GBWP, RRIO, 1.8V to 5.5V, -40 to 125, 14-TSSOP; APSS Standard Part: APSS Standard; Temp Range: -40°C ~ 125°C; MF Part No.: TLV9004IPWR; Package: TSSOP-14; Supplier 1: Digikey; Supplier 1 Part No.: 296-51827-1-ND; Rated Voltage: 5.5V
footprint TSSOP65P640X120-14N (TSSOP/MSOP/VSSOP, 4.4mm wide, 14 pin nominal)
part A pins: 1 OUT1 (out), 2 IN1-, 3 IN1+
part B pins: 5 IN2+, 6 IN2-, 7 OUT2 (out)
part C pins: 8 OUT3 (out), 9 IN3-, 10 IN3+
part D pins: 12 IN4+, 13 IN4-, 14 OUT4 (out)
part E pins: 4 V+ (power), 11 V- (power)

## TLV75801PDBVR
designator U?
IC - Regulator, LDO, 500 mA, Low Quiescent Current, SOT23-5; APSS Standard Part: APSS Standard; Temp Range: -40°C ~ 125°C (TJ); Rated Voltage: 6V; MF Part No.: TLV75801PDBVR; Package: SOT-23-5; Supplier 1: Digikey; Supplier 1 Part No.: 296-TLV75801PDBVRCT-ND
footprint SOT23-5N-1.45mm (SOT23, 5 pins, nominal pads, 1.45mm high)
pins: 1 IN (power), 2 GND (power), 3 EN (in), 4 FB, 5 OUT (power)

## TMP1075DGKR
designator U?
IC - Temperature Sensor, I2C, TSSOP-8, Local, -40°C ~ 125°C, 32 addresses; APSS Standard Part: APSS Standard; Rated Voltage: 1.7V ~ 5.5V; Temp Range: -55°C ~ 125°C (TA); MF Part No.: TMP1075DGKR; Package: TSSOP-8; Supplier 1: Digikey; Supplier 1 Part No.: 296-TMP1075DGKRCT-ND
footprint TSSOP-8N_3mmBody-1mm (TSSOP, 0.65mm pitch, 3mm body, 1mm high, nominal pads)
pins: 1 SDA (io), 2 SCL (in), 3 ALERT (out), 4 GND (power), 5 A2 (in), 6 A1 (in), 7 A0 (in), 8 V+ (power)

## TMP1075NDRLR
designator U?
IC - Temperature Sensor, I2C, SOT-563, Local, -40°C ~ 125°C, 4 addresses; APSS Standard Part: APSS Standard; Rated Voltage: 1.7V ~ 5.5V; Temp Range: -40°C ~ 125°C (TA); MF Part No.: TMP1075NDRLR; Package: SOT-563; Supplier 1: Digikey; Supplier 1 Part No.: 296-TMP1075NDRLRCT-ND
footprint SOT563-0P160X60-6N (SOT563, 6 pin, 0.5mm pitch)
pins: 1 SCL (in), 2 GND (power), 3 ALERT (out), 4 A0 (in), 5 V+ (power), 6 SDA (io)

## TNPW1206xxxxDE Series
designator R?
Passive - Resistor Series, 1206, 0.5%, 1R - 2M, E24+E96, 0.52W, 1/2W, ±25ppm/°C, -55°C ~ 155°C, 0805 (3216 Metric); APSS Standard Part: APSS Standard; Value Range: 1R ~ 2M; Rated Voltage: 200V; Temperature Coefficient: ±200ppm/°C; Tolerance: 0.5%; Power: 0.52W; E Series: E24+E96; Temp Range: -55°C ~ 155°C; Supplier 1: Digikey; Package: 0805; MF Part No.: *; Value: *
footprint RESISTOR_1206_3216M_55N
pins: 1, 2

## TSV992IST
designator U?
IC - Opamp, High Speed, 2-Channel, 20MHz GBWP, RRIO, 2.5V to 5.5V, -40 to 125, 8-MSOP; APSS Standard Part: APSS Standard; Temp Range: -40°C ~ 125°C; MF Part No.: TSV992IST; Package: MSOP-8 0.65mm; Supplier 1: Digikey; Supplier 1 Part No.: 497-5836-1-ND; Rated Voltage: 5.5V
footprint MSOP-8N-3mmBody-1.1mm (MSOP, 8 pin, 3mm wide, nominal pads, 1.1mm high)
part A pins: 1 OUT1 (out), 2 IN1-, 3 IN1+
part B pins: 5 IN2+, 6 IN2-, 7 OUT1 (out)
part C pins: 4 VCC- (power), 8 VCC+ (power)

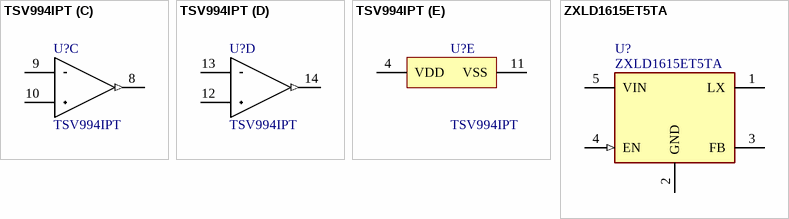
[diagram p2: symbols TSV994IPT to ZXLD1615ET5TA]

## TSV994IPT
designator U?
IC - Opamp, High Speed, 4-Channel, 30MHz GBWP, RRIO, 2.5V to 5.5V, -40 to 125, 14-TSSOP; APSS Standard Part: APSS Standard; Temp Range: -40°C ~ 125°C; MF Part No.: TSV994IPT; Package: TSSOP-14; Supplier 1: Digikey; Supplier 1 Part No.: 497-6003-1-ND; Rated Voltage: 5.5V
footprint TSSOP65P640X120-14N (TSSOP/MSOP/VSSOP, 4.4mm wide, 14 pin nominal)
part A pins: 1 OUT1 (out), 2 IN1-, 3 IN1+
part B pins: 5 IN2+, 6 IN2-, 7 OUT2 (out)
part C pins: 8 OUT3 (out), 9 IN3-, 10 IN3+
part D pins: 12 IN4+, 13 IN4-, 14 OUT4 (out)
part E pins: 4 VDD (power), 11 VSS (power)

## ZXLD1615ET5TA
designator U?
IC - Regulator, SEPIC, 500 mA, 2.5V to 5.5V In, 2.5V to 28V Out, SOT23-5; APSS Standard Part: APSS Standard; Temp Range: -40°C ~ 85°C (TA); MF Part No.: ZXLD1615ET5TA; Package: SOT-23-5; Supplier 1: Digikey; Supplier 1 Part No.: ZXLD1615ET5CT-ND; Rated Voltage: 5.5V
footprint SOT23-5N-1.45mm (SOT23, 5 pins, nominal pads, 1.45mm high)
pins: 1 LX (power), 2 GND (power), 3 FB, 4 EN (in), 5 VIN (power)